# Altium integrated library Res_Vishay_WSLP2726L5000FEA_eec.IntLib: 1 symbol
Pins are listed as number, name and electrical type; pins without a type are passive.

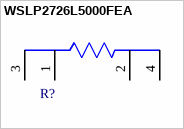
[diagram p0: symbol WSLP2726L5000FEA]

## WSLP2726L5000FEA
designator R?  (value not drawn)
pins: 1, 2, 3, 4